# Altium footprint library Powersupply.PcbLib: 3 footprints
Each footprint in its own frame and in the unit in brackets; x right, y up, seen from the top. Pads: shape width x height; smd on the part's side, far side on the other; paste and mask are expansions set on the pad; w line width, h text height; cw(c..) or ccw(c..) is an arc to the next point about the centre after c.
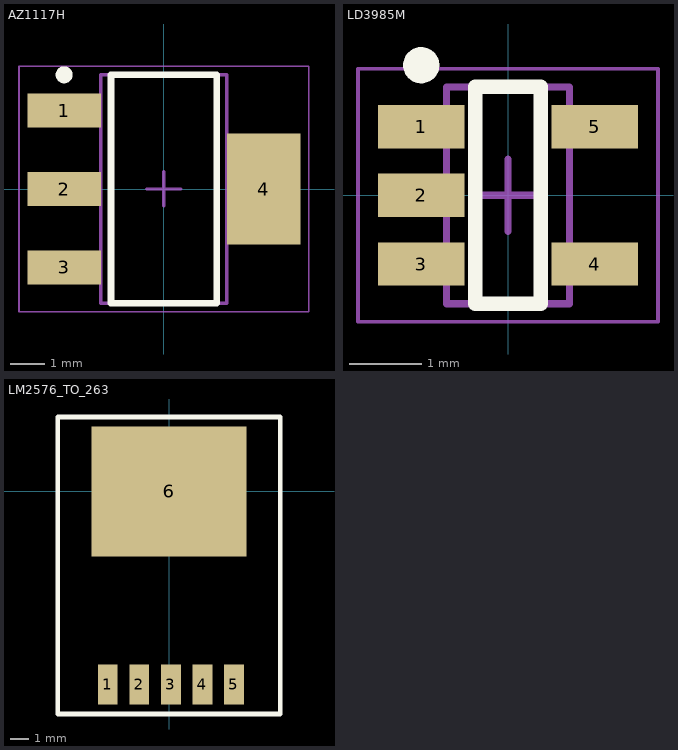
[diagram p0: the footprints below, top view; thin cyan lines are the x and y axes]

## AZ1117H [mm] "SOT223, 4-Leads, Body 6,50x7,00mm (avg), Pitch 2,30mm"
height 1.8
pads (4):
  rect 2.15x1 smd: 1(-2.925,2.3) 2(-2.925,0) 3(-2.925,-2.3)
  rect 2.15x3.25 smd: 4(2.925,0)
Top Overlay:
  circle w0.25: c-2.925,3.35 r0.125
  lines w0.2: -1.55,-3.35 1.55,-3.35 1.55,3.35 -1.55,3.35 -1.55,-3.35
Top Assy:
  lines w0.1: -1.85,-3.35 1.85,-3.35 1.85,3.35 -1.85,3.35 -1.85,-3.35
Top ConturComponent:
  lines w0.05: -4.25,-3.6 4.25,-3.6 4.25,3.6 -4.25,3.6 -4.25,-3.6
  lines w0.1: -0.5,0 0.5,0 ; 0,-0.5 0,0.5
3D body "AZ1117H.step": height 1.8, standoff 0, extent -3.5,-3.35 3.5,3.35

## LD3985M [mm] "SOT23, 5-Leads, Body 2,98x2,80mm, Pitch 0,95mm, IPC Medium Density"
height 1.45
pads (5):
  rect 1.2x0.6 smd: 1(-1.2,0.95) 2(-1.2,0) 3(-1.2,-0.95) 4(1.2,-0.95) 5(1.2,0.95)
Top Overlay:
  circle w0.25: c-1.2,1.8 r0.125
  lines w0.2: -0.45,-1.5 0.45,-1.5 0.45,1.5 -0.45,1.5 -0.45,-1.5
Top Assy:
  lines w0.1: -0.85,-1.5 -0.85,1.5 0.85,1.5 0.85,-1.5 -0.85,-1.5
Top ConturComponent:
  lines w0.05: -2.075,-1.75 -2.075,1.75 2.075,1.75 2.075,-1.75 -2.075,-1.75
  lines w0.1: -0.5,0 0.5,0 ; 0,-0.5 0,0.5
3D body "LD3985M.step": height 1.45, standoff 0, extent -1.4,-1.5 1.4,1.5

## LM2576_TO_263 [mm]
pads (6):
  rect 1.07x2.16 smd: 1(-3.3,-10.4) 2(-1.6,-10.4) 3(0.1,-10.4) 4(1.8,-10.4) 5(3.5,-10.4)
  rect 8.33x7 smd: 6(0,0)
Top Overlay:
  lines w0.254: -6,-12 -6,4 6,4 6,-12 -6,-12
3D body "LM2576_TO_263.SLDPRT": height 4.65, standoff -0.18, extent -5.1,-11.484 5.31,2.884